# Altium schematic symbol library CWX.SchLib: 12 symbols
Pins are listed as number, name and electrical type; pins without a type are passive.

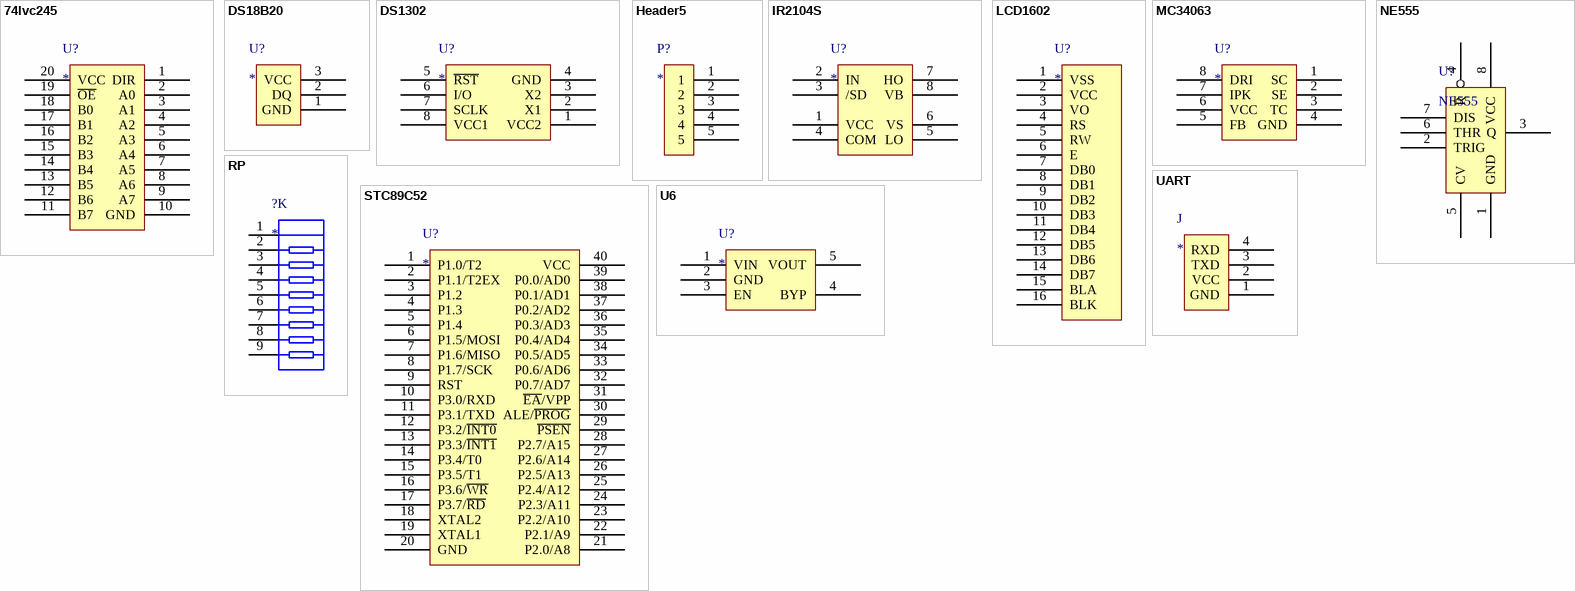
[diagram p0: symbols 74lvc245 to UART]

## 74lvc245
designator U?
pins: 1 DIR, 2 A0, 3 A1, 4 A2, 5 A3, 6 A4, 7 A5, 8 A6, 9 A7, 10 GND, 11 B7, 12 B6, 13 B5, 14 B4, 15 B3, 16 B2, 17 B1, 18 B0, 19 ~{OE}, 20 VCC

## DS18B20
designator U?
pins: 1 GND, 2 DQ, 3 VCC

## DS1302
designator U?
pins: 1 VCC2, 2 X1, 3 X2, 4 GND, 5 ~{RST}, 6 I/O, 7 SCLK, 8 VCC1

## Header5
designator P?
pins: 1, 2, 3, 4, 5

## IR2104S
designator U?
pins: 1 VCC, 2 IN, 3 /SD, 4 COM, 5 LO, 6 VS, 7 HO, 8 VB

## LCD1602
designator U?
pins: 1 VSS, 2 VCC, 3 VO, 4 RS, 5 RW, 6 E, 7 DB0, 8 DB1, 9 DB2, 10 DB3, 11 DB4, 12 DB5, 13 DB6, 14 DB7, 15 BLA, 16 BLK

## MC34063
designator U?
pins: 1 SC, 2 SE, 3 TC, 4 GND, 5 FB, 6 VCC, 7 IPK, 8 DRI

## NE555
designator U?
pins: 1 GND, 2 TRIG, 3 Q, 4 ~{R}, 5 CV, 6 THR, 7 DIS, 8 VCC

## RP
designator ?K
pins: 1, 2, 3, 4, 5, 6, 7, 8, 9

## STC89C52
designator U?
pins: 1 P1.0/T2 (hiz), 2 P1.1/T2EX, 3 P1.2, 4 P1.3, 5 P1.4, 6 P1.5/MOSI, 7 P1.6/MISO, 8 P1.7/SCK, 9 RST, 10 P3.0/RXD, 11 P3.1/TXD, 12 P3.2/~{INT0}, 13 P3.3/~{INT1}, 14 P3.4/T0, 15 P3.5/T1, 16 P3.6/~{WR}, 17 P3.7/~{RD}, 18 XTAL2, 19 XTAL1, 20 GND, 21 P2.0/A8, 22 P2.1/A9, 23 P2.2/A10, 24 P2.3/A11, 25 P2.4/A12, 26 P2.5/A13, 27 P2.6/A14, 28 P2.7/A15, 29 ~{PSEN}, 30 ALE/~{PROG}, 31 ~{EA}/VPP, 32 P0.7/AD7, 33 P0.6/AD6, 34 P0.5/AD5, 35 P0.4/AD4, 36 P0.3/AD3, 37 P0.2/AD2, 38 P0.1/AD1, 39 P0.0/AD0, 40 VCC

## U6
designator U?
pins: 1 VIN, 2 GND, 3 EN, 4 BYP, 5 VOUT

## UART
designator J
pins: 1 GND, 2 VCC, 3 TXD, 4 RXD